# Altium schematic symbol library shared_schemLib.SchLib: 12 symbols
Pins are listed as number, name and electrical type; pins without a type are passive.

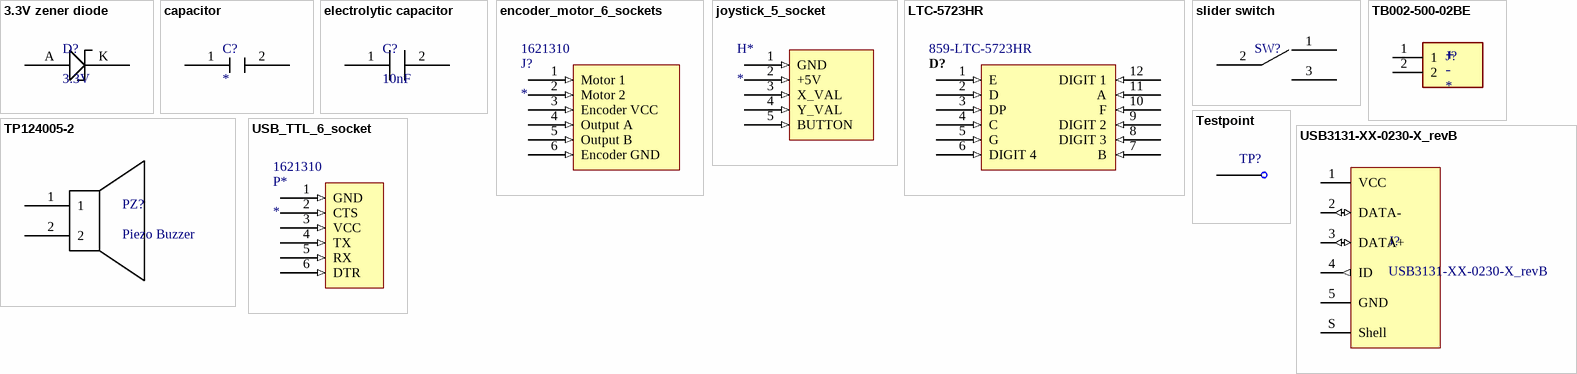
[diagram p0: symbols 3.3V zener diode to USB_TTL_6_socket]

## 3.3V zener diode
designator D?, comment 3.3V
BZX384-Q series - Voltage regulator diodes; Manufacturer: Nexperia; Manufacturer Part Number: BZX384-A3V3-QX; Supplier 1: Mouser; RoHS: No; Category: Uncategorized; Stock 1: 5506; Pricing 1: 1=0.43000, 10=0.37300, 50=0.37300, 100=0.27900, 1000=0.17600, 10000=0.14900 (USD); Supplier Part Number 1: 771-BZX384-A3V3-QX
footprint Zener Diode
pins: A 1, K 2

## capacitor
designator C?
footprint Ceramic Capacitor
pins: 1, 2

## electrolytic capacitor
designator C?, comment 10nF
footprint electrolytic_capacitor
footprint electrolytic_capacitor
pins: 1, 2

## encoder_motor_6_sockets
designator J?  Supplier Part Number 1: 1621310
THT Angled Socket Header WR-PHD, Pitch 2.54 mm, Dual Row, 64 pins; Manufacturer: Wurth Electronics; Manufacturer Part Number: 613064243121; Current Rating: 3A; Number of Positions: 64; Gender: Receptacle; Voltage Rating: 250V; Insulation Resistance: 1GR; Insulation: Insulated; Pitch: 2.54mm; Row Spacing: 0.1inch; Supplier 1: Rs; RoHS: Yes; Category: Headers and Wire Housings; Stock 1: 88; Pricing 1: 40=5.25000, 200=4.72500 (AUD); Mount: Through Hole; Contact Material: Copper Alloy,Copper; Contact Plating: Gold; Color: Black; Housing Material: PBT; Contact Finish - Mating: GOLD; Insulation Color: Black; Insulation Material: Nylon; Contact Shape: Square; Min Operating Temperature: -40°C; Max Operating Temperature: 105°C; Number of Rows: 2; Packaging: Tray; Package Quantity: 60; Termination: Through Hole; Number of Contacts: 64; Connector Type: Header; Series: WR-PHD; Contact Type: Forked; Fastening Type: Pull; Contact Gender: Female; Voltage Rating (AC): 250V; Length: 81.78mm; Width: 163.06mm; Height: 8.5mm; RoHS Compliant: Yes; Flammability Rating: UL94 V-0; ComponentLink1URL: http://www.farnell.com/datasheets/1442177.pdf?src-supplier=Farnell; ComponentLink1Description: http://www.farnell.com/datasheets/1442177.pdf?src-supplier=Farnell; ComponentLink2URL: http://www.mouser.com/ds/2/445/6130xx243121-537798.pdf?src-supplier=Mouser; ComponentLink2Description: http://www.mouser.com/ds/2/445/6130xx243121-537798.pdf?src-supplier=Mouser; ComponentLink3URL: http://www.produktinfo.conrad.com/datenblaetter/1000000-1099999/001088203-da-01-en-WR_PHD__BUCHSENLEISTE___613064243121.pdf?src-supplier=Conrad; ComponentLink3Description: http://www.produktinfo.conrad.com/datenblaetter/1000000-1099999/001088203-da-01-en-WR_PHD__BUCHSENLEISTE___613064243121.pdf?src-supplier=Conrad; ComponentLink4URL: http://www.farnell.com/datasheets/1442177.pdf?src-supplier=Element14; ComponentLink4Description: http://www.farnell.com/datasheets/1442177.pdf?src-supplier=Element14; ComponentLink5URL: https://katalog.we-online.de/em/datasheet/6130xx243121.pdf?src-supplier=Digi-Key; ComponentLink5Description: https://katalog.we-online.de/em/datasheet/6130xx243121.pdf?src-supplier=Digi-Key
pins: 1 Motor 1 (in), 2 Motor 2 (in), 3 Encoder VCC (in), 4 Output A (in), 5 Output B (in), 6 Encoder GND (in)

## joystick_5_socket
designator H*
footprint joystick
pins: 1 GND (in), 2 +5V (in), 3 X_VAL (in), 4 Y_VAL (in), 5 BUTTON (in)

## LTC-5723HR
designator D?, comment Supplier Part Number 1: 859-LTC-5723HR  (hidden comment: 4 digit display)
Displays Segmented Panel 4DIGIT 32LED Hi-Eff. Red CC 12-Pin DIP; Manufacturer: Vishay Lite-On; Manufacturer Part Number: LTC-5723HR; Operating Supply Voltage: 2V; Wavelength: 623nm; Forward Current: 20mA; Element Configuration: Common Cathode; Test Current: 10mA; Power Dissipation: 75mW; Number of Elements: 32; Reverse Voltage: 5V; Viewing Area (height): 14.2mm; Viewing Area Length: 8.1mm; Supplier 1: Mouser; RoHS: Yes; Category: LED Displays; Stock 1: 897; Pricing 1: 1=2.97000, 10=2.09000, 50=2.09000, 100=1.71000, 1000=1.32000, 10000=1.25000 (USD); Mount: Through Hole; Case/Package: DIP; Number of Pins: 12; Min Operating Temperature: -35°C; Max Operating Temperature: 85°C; Package Quantity: 10; Illumination Color: Red; Forward Voltage: 2V; Packaging: Rail/Tube; Dominant Wavelength: 623nm; Display Type: Segment; Power Consumption: 75mW; Length: 50.3mm; Depth: 19mm; RoHS Compliant: Yes; ComponentLink1URL: https://datasheet.ciiva.com/6355/s-110-c5723hr-6355372.pdf?src-supplier=Digi-Key; ComponentLink1Description: https://datasheet.ciiva.com/6355/s-110-c5723hr-6355372.pdf?src-supplier=Digi-Key
footprint DIP12
footprint 7 SEG DISPLAY (DIP12)
pins: 1 E (in), 2 D (in), 3 DP (in), 4 C (in), 5 G (in), 6 DIGIT 4 (in), 7 B (in), 8 DIGIT 3 (in), 9 DIGIT 2 (in), 10 F (in), 11 A (in), 12 DIGIT 1 (in)

## slider switch
designator SW?  (value not drawn)
Manufacturer: CUI Devices; Manufacturer Part Number: MSS-102559-14A-D; Supplier 1: Arrow Electronics; RoHS: No; Category: Switches; Stock 1: 38; Pricing 1: 1=0.85700, 10=0.79850, 25=0.69270, 200=0.63470, 400=0.59790, 600=0.54440, 1000=0.50430, 2600=0.45390, 5000=0.43430 (USD); Supplier Part Number 1: MSS-102559-14A-D
footprint slider switch
pins: 1, 2, 3

## TB002-500-02BE
designator J?
2~24 Poles, Screw Type, Horizontal, 5.0 Pitch, 22~12 (AWG), Terminal Block Connector; MP: TB002-500-02BE; MF: CUI Devices; Purchase-URL: https://pricing.snapeda.com/search/part/TB002-500-02BE/?ref=eda; Package: None; Price: None; Availability: In Stock; SnapEDA_Link: https://www.snapeda.com/parts/TB002-500-02BE/CUI+Devices/view-part/?ref=snap; Value: *; Check_prices: https://www.snapeda.com/parts/TB002-500-02BE/CUI+Devices/view-part/?ref=eda; CUI_purchase_URL: https://www.cuidevices.com/product/interconnect/connectors/terminal-blocks/tb002-500-series?utm_source=snapeda.com&utm_medium=referral&utm_campaign=snapedaBOM
footprint CUI_TB002-500-02BE
pins: 1, 2
text: +; -

## Testpoint
designator TP?
Polyurethane Multi-Purpose Cream Adhesive, 10.3 oz Cartridge; Manufacturer: Keystone Electronics; Manufacturer Part Number: 5010; Body Material: Bronze,PBT; Plating: Silver; Number of Ports: 1; Inside Diameter: 1.78mm; Hole Diameter: 1.6mm; Supplier 1: Digi-Key; RoHS: Yes; Category: Connectors; Stock 1: 546313; Pricing 1: 1=0.42000, 25=0.34080, 100=0.30150, 250=0.28304, 500=0.25230, 1000=0.19884, 2500=0.18180, 5000=0.17044 (USD); Mount: Through Hole,PCB; Contact Material: Bronze; Contact Plating: Silver,Tin; Color: Red; Material: Nylon,Bronze,Silver; Housing Color: Red; Insulation Material: Nylon; Packaging: Bulk; Series: THM; Package Quantity: 100; Termination: Through Hole; Orientation: Straight; Length: 11.3mm; Height: 0.445inch; Lead Free: Lead Free; Flammability Rating: UL94 V-0; RoHS Compliant: Yes; REACH SVHC: No SVHC; ComponentLink1URL: https://datasheet.ciiva.com/11744/0900766b8009b7c7-11744920.pdf?src-supplier=RSComponents; ComponentLink1Description: https://datasheet.ciiva.com/11744/0900766b8009b7c7-11744920.pdf?src-supplier=RSComponents; ComponentLink2URL: https://datasheet.ciiva.com/16506/m60-2p60-16506972.pdf?src-supplier=Future+Electronics; ComponentLink2Description: https://datasheet.ciiva.com/16506/m60-2p60-16506972.pdf?src-supplier=Future+Electronics; ComponentLink3URL: https://datasheet.ciiva.com/16883/70182825-16883886.pdf?src-supplier=Allied+Electronics; ComponentLink3Description: https://datasheet.ciiva.com/16883/70182825-16883886.pdf?src-supplier=Allied+Electronics; ComponentLink4URL: https://datasheet.ciiva.com/1454/1703983-1454833.pdf?src-supplier=Element14; ComponentLink4Description: https://datasheet.ciiva.com/1454/1703983-1454833.pdf?src-supplier=Element14; ComponentLink5URL: https://datasheet.ciiva.com/22631/1703983-22631113.pdf?src-supplier=Element14; ComponentLink5Description: https://datasheet.ciiva.com/22631/1703983-22631113.pdf?src-supplier=Element14; ComponentLink6URL: https://datasheet.ciiva.com/2917/5010-2917626.pdf?src-supplier=Digi-Key; ComponentLink6Description: https://datasheet.ciiva.com/2917/5010-2917626.pdf?src-supplier=Digi-Key; Supplier Part Number 1: 36-5010-ND
footprint TEST_POINT
pins: 1

## TP124005-2
designator PZ?, comment Piezo Buzzer
High Temp Piezo Transducer; Resonant Frequency: 4000Hz; Rated Voltage: 5V; SPL @ 10cm: 75dBA; Manufacturer: DB Unlimited; Manufacturer Part Number: TP124005-2; Supplier 1: Digi-Key; RoHS: No; Category: Audio Products; Stock 1: 2115; Pricing 1: 1=0.78000, 10=0.64900, 25=0.60120, 50=0.56620, 100=0.53260 (USD); Supplier Part Number 1: 2104-TP124005-2CT-ND
footprint Buzzer
pins: 1, 2

## USB3131-XX-0230-X_revB
designator J?
Micro USB Receptacle, Type B, Through-Hole, Vertical, with 2.3mm Shell Stakes
footprint USB3131-XX-0230-X_revB (Micro USB Receptacle, Type B, Through-Hole, Vertical, with 2.3mm Shell Stakes)
pins: 1 VCC (power), 2 DATA- (io), 3 DATA+ (io), 4 ID (out), 5 GND (power), S Shell (power)

## USB_TTL_6_socket
designator P*  Supplier Part Number 1: 1621310
Supplier 1: Rs
footprint TTL USB (6 SOCKETS)
pins: 1 GND (in), 2 CTS (in), 3 VCC (in), 4 TX (in), 5 RX (in), 6 DTR (in)